# Altium footprint library C655_Main_Board_200210.PcbLib: 23 footprints (part 1 of 2)
Each footprint in its own frame and in the unit in brackets; x right, y up, seen from the top. Pads: shape width x height; smd on the part's side, far side on the other; paste and mask are expansions set on the pad; w line width, h text height; cw(c..) or ccw(c..) is an arc to the next point about the centre after c.
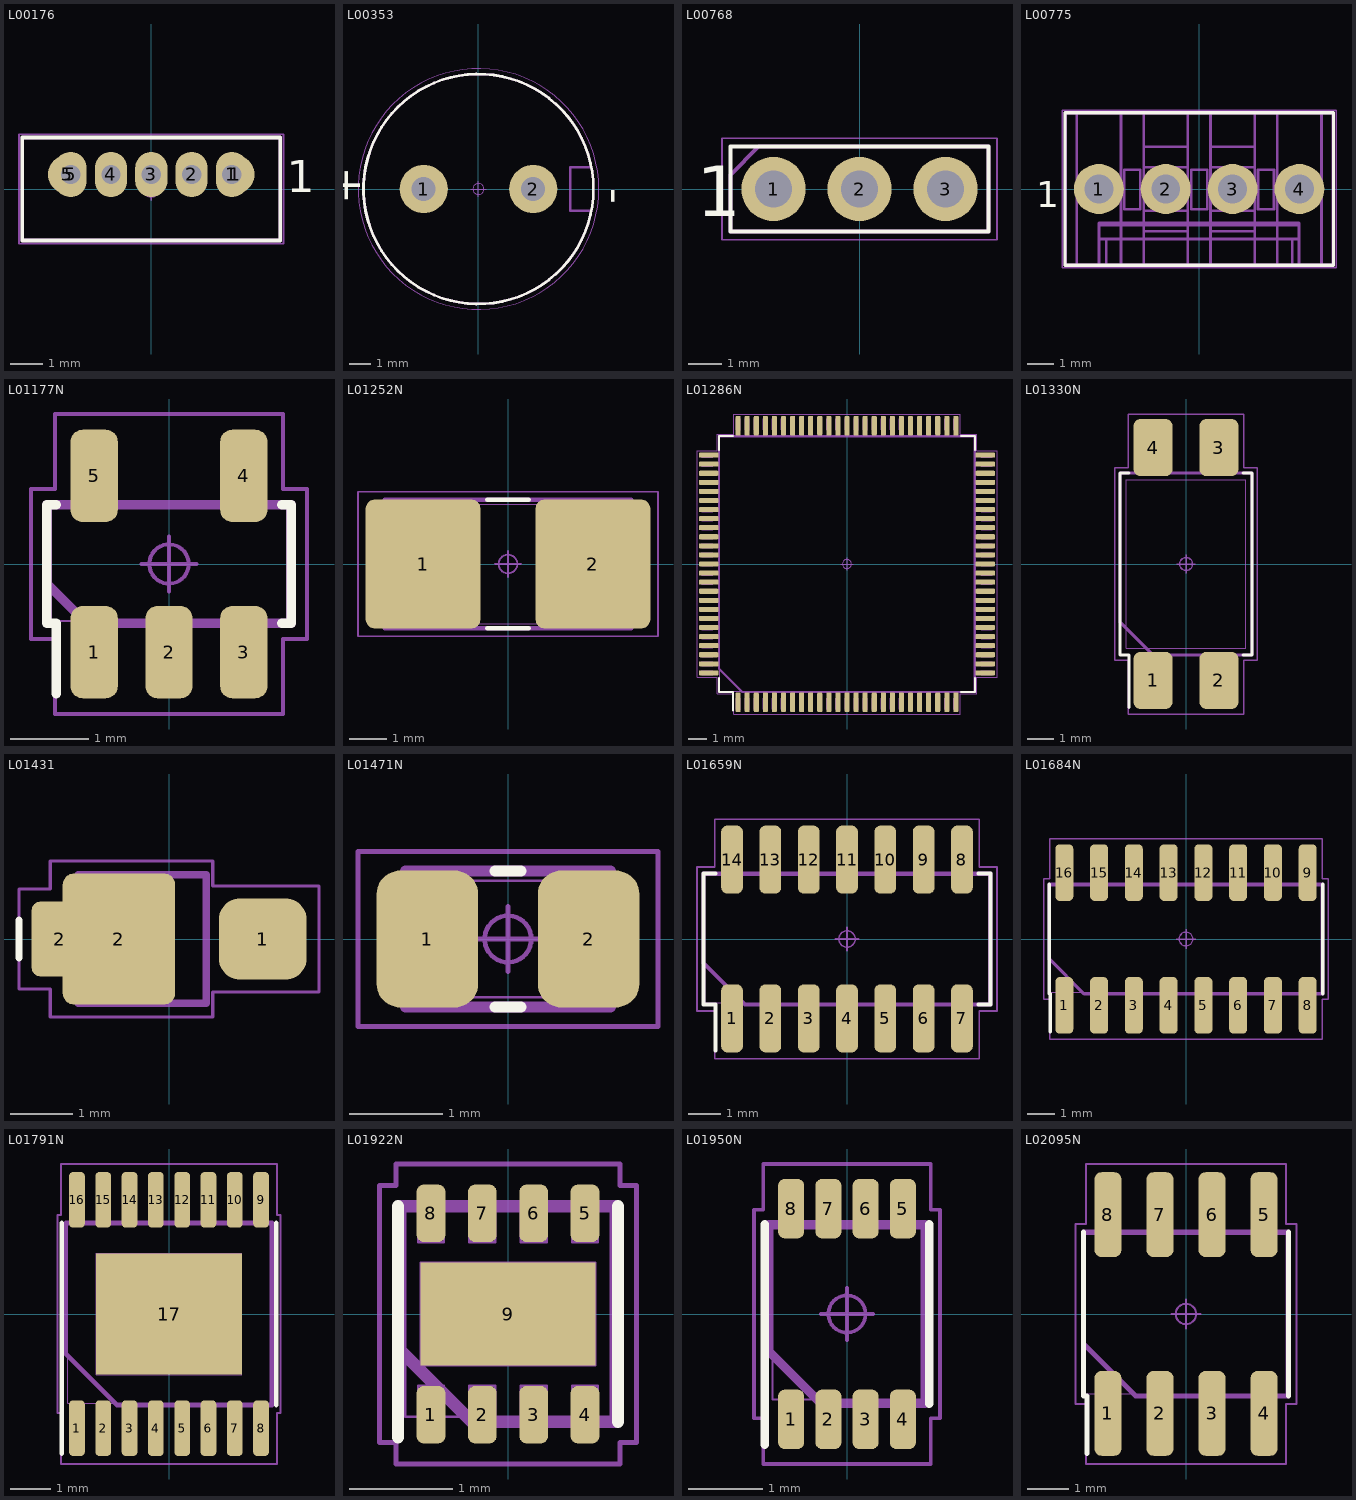
[diagram p0: the footprints below, top view; thin cyan lines are the x and y axes]

## L00176 [mm]
height 4.4
pads (7):
  rrect100% 1x1.4 hole 0.6 paste-1.9: 1(2.5,0.45) 2(1.25,0.45) 3(0,0.45) 4(-1.25,0.45) 5(-2.5,0.45)
  round 1.2 all layers, no hole: 1(2.6,0.45) 5(-2.6,0.45)
Top Overlay:
  lines w0.12: -4,-1.6 4,-1.6 4,1.6 -4,1.6 -4,-1.6
  text "1" at 4.2,-0.1 h1
Top Assembly (Mech13):
  lines w0.12: -4,-1.6 4,-1.6 4,1.6 -4,1.6 -4,-1.6 ; -2.7,0.05 -2.3,0.05 -2.3,0.85 -2.7,0.85 -2.7,0.05 ; -1.45,0.05 -1.05,0.05 -1.05,0.85 -1.45,0.85 -1.45,0.05 ; -0.2,0.05 0.2,0.05 0.2,0.85 -0.2,0.85 -0.2,0.05 ; 1.05,0.05 1.45,0.05 1.45,0.85 1.05,0.85 1.05,0.05 ; 2.3,0.05 2.7,0.05 2.7,0.85 2.3,0.85 2.3,0.05
  text ".Designator" at -3.4,-1.5 h1.5
  text "1" at 3.3,0.1 h1.5
Top Courtyard (Mech15):
  circle w0.05: c0,0 r0.25
  lines w0.05: -0.35,0 0.35,0 ; 0,-0.35 0,0.35 ; -4.1,-1.7 4.1,-1.7 4.1,1.7 -4.1,1.7 -4.1,-1.7
3D body "530470510.stp": height 4.47, standoff -2.02, extent -4,-1.6 4,1.6

## L00353 [mm] "CAPPRD500W60D1050H1400"
height 14
pads (2):
  round 2.2 hole 1.1 paste-2.2: 1(-2.5,0) 2(2.5,0)
Top Overlay:
  circle w0.12: c0,0 r5.25
  text "+" at -5.4,-0.7 h1.5
  text "-" at 6.7,-0.7 h1.5
Top Assembly (Mech13):
  circle w0.12: c0,0 r5.25
  lines w0.12: 5.1,-1 4.2,-1 4.2,1 5.1,1
  text "-" at 5.2,-0.2 h2
  text "+" at -3.7,-0.4 h2
  text ".Designator" at -3.3,-0.6 h1.5
Top Courtyard (Mech15):
  circle w0.05: c0,0 r5.5
  circle w0.05: c0,0 r0.25
  lines w0.05: -0.35,0 0.35,0 ; 0,-0.35 0,0.35
Mechanical 31:
  circle w0.025: c-2.5,0 r0.325
  circle w0.025: c2.5,0 r0.325
  circle w0.025: c0,0 r5.25
3D body "CAPPRD500W60D1050H1400.STEP": height 14.01, standoff -2, extent -5.25,-5.25 5.26,5.25
3D body: height 0.25, standoff 0, extent 0,0 0.254,0.254

## L00768 [mm] "HDRV3W63P254_3X1_762X250H970"
height 9.7
pads (3):
  round 1.9 hole 1.1 paste-1.9: 1(-2.54,0) 2(0,0) 3(2.54,0)
Top Overlay:
  lines w0.12: -3.81,-1.25 3.81,-1.25 3.81,1.25 -3.81,1.25 -3.81,-1.25
  text "1" at -4.8,-0.8 h1.5
Top Assembly (Mech13):
  lines w0.12: -3.81,-1.25 3.81,-1.25 3.81,1.25 -2.977,1.25 -3.81,0.417 -3.81,-1.25
  text ".Designator" at -3.4,-0.6 h1.5
Top Courtyard (Mech15):
  circle w0.05: c0,0 r0.25
  lines w0.05: -0.35,0 0.35,0 ; 0,-0.35 0,0.35 ; -4.06,-1.5 4.06,-1.5 4.06,1.5 -4.06,1.5 -4.06,-1.5
Mechanical 31:
  lines w0.025: -3.81,-1.25 3.81,-1.25 3.81,1.25 -3.81,1.25 -3.81,-1.25 ; -2.855,-0.315 -2.225,-0.315 -2.225,0.315 -2.855,0.315 -2.855,-0.315 ; -0.315,-0.315 0.315,-0.315 0.315,0.315 -0.315,0.315 -0.315,-0.315 ; 2.225,-0.315 2.855,-0.315 2.855,0.315 2.225,0.315 2.225,-0.315
3D body "HDRV3W63P254_3X1_762X250H970.STEP": height 9.7, standoff -2, extent -3.81,-1.25 3.81,1.25

## L00775 [mm]
height 12
pads (4):
  round 1.9 hole 1.1: 1(-3.81,0) 2(-1.27,0) 3(1.27,0) 4(3.81,0)
Top Overlay:
  lines w0.12: -5.1,-2.9 5.1,-2.9 5.1,2.9 -5.1,2.9 -5.1,-2.9
  text "1" at -6.2,-0.7 h1
Top Assembly (Mech13):
  lines w0.12: -3.8,-2.9 -3.8,-1.3 3.8,-1.3 3.8,-2.9 ; -5.1,-2.9 5.1,-2.9 5.1,2.9 -5.1,2.9 -5.1,-2.9 ; -4.135,-0.325 -3.485,-0.325 -3.485,0.325 -4.135,0.325 -4.135,-0.325 ; -1.595,-0.325 -0.945,-0.325 -0.945,0.325 -1.595,0.325 -1.595,-0.325 ; 0.945,-0.325 1.595,-0.325 1.595,0.325 0.945,0.325 0.945,-0.325 ; 3.485,-0.325 4.135,-0.325 4.135,0.325 3.485,0.325 3.485,-0.325
  text ".Designator" at -3.3,-0.6 h1.5
  text "1" at -4,1.4 h1.5
Top Courtyard (Mech15):
  lines w0.05: -5.2,-3 5.2,-3 5.2,3 -5.2,3 -5.2,-3
Mechanical 31:
  lines w0.1: -4.65,-2.9 -4.65,2.9 ; -3.81,-2.9 -3.81,-1.3 3.81,-1.3 3.81,-2.9 ; -3.81,-1.9 3.81,-1.9 ; -3.81,-1.37 3.81,-1.37 ; -3.537,-2.9 -3.537,-1.9 ; -2.97,-2.9 -2.97,2.9 ; -2.11,-2.9 -2.11,2.9 ; -2.11,-1.6 -0.43,-1.6 ; -2.11,-0.825 -0.43,-0.825 ; -2.11,0.825 -0.43,0.825 ; -2.11,1.6 -0.43,1.6 ; -0.43,-2.9 -0.43,2.9 ; 0.43,-2.9 0.43,2.9 ; 0.43,-1.6 2.11,-1.6 ; 0.43,-0.825 2.11,-0.825 ; 0.43,0.825 2.11,0.825 ; 0.43,1.6 2.11,1.6 ; 2.11,-2.9 2.11,2.9 ; 2.97,-2.9 2.97,2.9 ; 3.537,-2.9 3.537,-1.9 ; 4.65,-2.9 4.65,2.9 ; -4.13,-0.34 -3.49,-0.34 ; -4.13,-0.34 -4.13,0.3 ; -4.13,-0.34 -3.93,-0.14 ; -4.13,0.3 -3.49,0.3 ; -4.13,0.3 -3.93,0.1 ; -3.93,-0.14 -3.93,0.1 ; -3.93,-0.14 -3.69,-0.14 ; -3.93,0.1 -3.69,0.1 ; -3.69,-0.14 -3.49,-0.34 ; -3.69,-0.14 -3.69,0.1 ; -3.69,0.1 -3.49,0.3 ; -3.49,-0.34 -3.49,0.3 ; -1.59,-0.34 -0.95,-0.34 ; -1.59,-0.34 -1.59,0.3 ; -1.59,-0.34 -1.39,-0.14 ; -1.59,0.3 -0.95,0.3 ; -1.59,0.3 -1.39,0.1 ; -1.39,-0.14 -1.15,-0.14 ; -1.39,-0.14 -1.39,0.1 ; -1.39,0.1 -1.15,0.1 ; -1.15,-0.14 -1.15,0.1 ; -1.15,-0.14 -0.95,-0.34 ; -1.15,0.1 -0.95,0.3 ; -0.95,-0.34 -0.95,0.3 ; 0.95,-0.34 1.59,-0.34 ; 0.95,-0.34 0.95,0.3 ; 0.95,-0.34 1.15,-0.14 ; 0.95,0.3 1.15,0.1 ; 0.95,0.3 1.59,0.3 ; 1.15,-0.14 1.39,-0.14 ; 1.15,-0.14 1.15,0.1 ; 1.15,0.1 1.39,0.1 ; 1.39,-0.14 1.59,-0.34 ; 1.39,-0.14 1.39,0.1 ; 1.39,0.1 1.59,0.3 ; 1.59,-0.34 1.59,0.3 ; 3.49,-0.34 4.13,-0.34 ; 3.49,-0.34 3.49,0.3 ; 3.49,-0.34 3.69,-0.14 ; 3.49,0.3 4.13,0.3 ; 3.49,0.3 3.69,0.1 ; 3.69,-0.14 3.93,-0.14 ; 3.69,-0.14 3.69,0.1 ; 3.69,0.1 3.93,0.1 ; 3.93,-0.14 4.13,-0.34 ; 3.93,-0.14 3.93,0.1 ; 3.93,0.1 4.13,0.3 ; 4.13,-0.34 4.13,0.3 ; -5.08,-2.9 5.08,-2.9 5.08,2.9 -5.08,2.9 -5.08,-2.9 ; -2.845,-0.77 -2.235,-0.77 -2.235,0.73 -2.845,0.73 -2.845,-0.77 ; -0.305,-0.77 0.305,-0.77 0.305,0.73 -0.305,0.73 -0.305,-0.77 ; 2.235,-0.77 2.845,-0.77 2.845,0.73 2.235,0.73 2.235,-0.77
3D body "22272041.stp": height 11.77, standoff -3.49, extent -5.08,-2.9 5.08,2.9

## L01177N [mm] "SOT23-5P95_275X110L40X37N"
height 1.1
pads (5):
  rrect50% 0.6x1.17 smd: 1(-0.95,-1.12) 2(0,-1.12) 3(0.95,-1.12) 4(0.95,1.12) 5(-0.95,1.12)
Top Overlay:
  lines w0.12: -1.43,-1.645 -1.43,-0.75 -1.55,-0.75 -1.55,0.75 -1.43,0.75 ; 1.43,-0.75 1.55,-0.75 1.55,0.75 1.43,0.75
Top Assembly (Mech13):
  lines w0.12: -1.55,-0.25 -1.05,-0.75 1.55,-0.75 1.55,0.75 -1.55,0.75 -1.55,-0.25
  text ".Designator" at -2.7,-0.4 h1.2
Top Courtyard (Mech15):
  circle w0.05: c0,0 r0.25
  lines w0.05: -0.35,0 0.35,0 ; 0,-0.35 0,0.35 ; -1.75,-0.95 -1.75,0.95 -1.45,0.95 -1.45,1.905 1.45,1.905 1.45,0.95 1.75,0.95 1.75,-0.95 1.45,-0.95 1.45,-1.905 -1.45,-1.905 -1.45,-0.95 -1.75,-0.95
Mechanical 31:
  lines w0.025: -1.5,-0.725 -1.5,0.725 1.5,0.725 1.5,-0.725 -1.5,-0.725 ; -1.138,-1.375 -0.763,-1.375 -0.763,-0.975 -1.138,-0.975 -1.138,-1.375 ; -1.138,0.975 -0.763,0.975 -0.763,1.375 -1.138,1.375 -1.138,0.975 ; -0.188,-1.375 0.188,-1.375 0.188,-0.975 -0.188,-0.975 -0.188,-1.375 ; 0.763,-1.375 1.138,-1.375 1.138,-0.975 0.763,-0.975 0.763,-1.375 ; 0.763,0.975 1.138,0.975 1.138,1.375 0.763,1.375 0.763,0.975
3D body "SOT23-5P95_275X110L40X37.STEP": height 1.1, standoff 0, extent -1.55,-1.5 1.55,1.5

## L01252N [mm] "RESC635X318X90L221N"
height 0.9
pads (2):
  rrect16% 3.07x3.45 smd: 1(-2.27,0) 2(2.27,0)
Top Overlay:
  lines w0.12: -0.555,-1.72 0.555,-1.72 ; -0.555,1.72 0.555,1.72
Top Assembly (Mech13):
  lines w0.12: -3.3,-1.72 -3.3,1.72 3.3,1.72 3.3,-1.72 -3.3,-1.72
  text ".Designator" at -2.159,-0.381 h1
Top Courtyard (Mech15):
  circle w0.05: c0,0 r0.25
  lines w0.05: -0.35,0 0.35,0 ; 0,-0.35 0,0.35 ; -4.01,-1.93 -4.01,1.93 4.01,1.93 4.01,-1.93 -4.01,-1.93
Mechanical 31:
  lines w0.025: -3.175,-1.593 -0.96,-1.593 -0.96,1.593 -3.175,1.593 ; -3.175,-1.593 -3.175,1.593 ; -3.175,-1.593 -3.175,1.593 ; -3.175,-1.593 3.175,-1.593 ; -3.175,1.593 3.175,1.593 ; 3.175,-1.593 3.175,1.593 ; 3.175,-1.593 0.96,-1.593 0.96,1.593 3.175,1.593 ; 3.175,-1.593 3.175,1.593
3D body "RESC635X318X90L221.STEP": height 0.9, standoff 0, extent -3.3,-1.72 3.3,1.72

## L01286N [mm] "QFP100P50_1600X1600X160L60X22N"
height 1.6
pads (100):
  rrect50% 0.28x1.09 smd: 1(-6,-7.62) 2(-5.5,-7.62) 3(-5,-7.62) 4(-4.5,-7.62) 5(-4,-7.62) 6(-3.5,-7.62) 7(-3,-7.62) 8(-2.5,-7.62) 9(-2,-7.62) 10(-1.5,-7.62) 11(-1,-7.62) 12(-0.5,-7.62) 13(0,-7.62) 14(0.5,-7.62) 15(1,-7.62) 16(1.5,-7.62) 17(2,-7.62) 18(2.5,-7.62) 19(3,-7.62) 20(3.5,-7.62) 21(4,-7.62) 22(4.5,-7.62) 23(5,-7.62) 24(5.5,-7.62) 25(6,-7.62) 51(6,7.62) 52(5.5,7.62) 53(5,7.62) 54(4.5,7.62) 55(4,7.62) 56(3.5,7.62) 57(3,7.62) 58(2.5,7.62) 59(2,7.62) 60(1.5,7.62) 61(1,7.62) 62(0.5,7.62) 63(0,7.62) 64(-0.5,7.62) 65(-1,7.62) 66(-1.5,7.62) 67(-2,7.62) 68(-2.5,7.62) 69(-3,7.62) 70(-3.5,7.62) 71(-4,7.62) 72(-4.5,7.62) 73(-5,7.62) 74(-5.5,7.62) 75(-6,7.62)
  rrect50% 1.09x0.28 smd: 26(7.62,-6) 27(7.62,-5.5) 28(7.62,-5) 29(7.62,-4.5) 30(7.62,-4) 31(7.62,-3.5) 32(7.62,-3) 33(7.62,-2.5) 34(7.62,-2) 35(7.62,-1.5) 36(7.62,-1) 37(7.62,-0.5) 38(7.62,0) 39(7.62,0.5) 40(7.62,1) 41(7.62,1.5) 42(7.62,2) 43(7.62,2.5) 44(7.62,3) 45(7.62,3.5) 46(7.62,4) 47(7.62,4.5) 48(7.62,5) 49(7.62,5.5) 50(7.62,6) 76(-7.62,6) 77(-7.62,5.5) 78(-7.62,5) 79(-7.62,4.5) 80(-7.62,4) 81(-7.62,3.5) 82(-7.62,3) 83(-7.62,2.5) 84(-7.62,2) 85(-7.62,1.5) 86(-7.62,1) 87(-7.62,0.5) 88(-7.62,0) 89(-7.62,-0.5) 90(-7.62,-1) 91(-7.62,-1.5) 92(-7.62,-2) 93(-7.62,-2.5) 94(-7.62,-3) 95(-7.62,-3.5) 96(-7.62,-4) 97(-7.62,-4.5) 98(-7.62,-5) 99(-7.62,-5.5) 100(-7.62,-6)
Top Overlay:
  lines w0.1: -7.05,-6.29 -7.05,-7.05 -6.29,-7.05 -6.29,-8.065 ; -7.05,6.29 -7.05,7.05 -6.29,7.05 ; 6.29,-7.05 7.05,-7.05 7.05,-6.29 ; 6.29,7.05 7.05,7.05 7.05,6.29
Top Assembly (Mech13):
  lines w0.12: -7.05,-5.78 -7.05,7.05 7.05,7.05 7.05,-7.05 -5.78,-7.05 -7.05,-5.78
  text ".Designator" at -3.3,-0.6 h1.5
Top Courtyard (Mech15):
  circle w0.05: c0,0 r0.25
  lines w0.05: -0.35,0 0.35,0 ; 0,-0.35 0,0.35 ; -8.265,-6.24 -7.15,-6.24 -7.15,-7.15 -6.24,-7.15 -6.24,-8.265 6.24,-8.265 6.24,-7.15 7.15,-7.15 7.15,-6.24 8.265,-6.24 8.265,6.24 7.15,6.24 7.15,7.15 6.24,7.15 6.24,8.265 -6.24,8.265 -6.24,7.15 -7.15,7.15 -7.15,6.24 -8.265,6.24 -8.265,-6.24
Mechanical 31:
  drawing of 404 lines, arcs and shapes, not listed
3D body "QFP100P50_1600X1600X160L60X22.STEP": height 1.6, standoff 0, extent -8.05,-8.05 8.05,8.05

## L01330N [mm] "SOIC4P254_460X1015X460L100X125N"
height 4.6
pads (4):
  rrect33% 1.5x2.19 smd: 1(-1.27,-4.485) 2(1.27,-4.485) 3(1.27,4.485) 4(-1.27,4.485)
Top Overlay:
  lines w0.12: -2.2,-5.52 -2.2,-3.5 -2.55,-3.5 -2.55,3.5 -2.2,3.5 ; 2.2,-3.5 2.55,-3.5 2.55,3.5 2.2,3.5
Top Assembly (Mech13):
  lines w0.12: -2.55,-2.23 -2.55,3.5 2.55,3.5 2.55,-3.5 -1.28,-3.5 -2.55,-2.23
  text ".Designator" at -2.6,-0.5 h1.2
Top Courtyard (Mech15):
  circle w0.05: c0,0 r0.25
  lines w0.05: -0.35,0 0.35,0 ; 0,-0.35 0,0.35 ; -2.75,-3.7 -2.22,-3.7 -2.22,-5.78 2.22,-5.78 2.22,-3.7 2.75,-3.7 2.75,3.7 2.22,3.7 2.22,5.78 -2.22,5.78 -2.22,3.7 -2.75,3.7 -2.75,-3.7
Mechanical 31:
  lines w0.025: -2.3,-3.25 2.3,-3.25 2.3,3.25 -2.3,3.25 -2.3,-3.25 ; -1.895,-5.075 -1.895,-4.075 -0.645,-4.075 -0.645,-5.075 -1.895,-5.075 ; -1.895,4.075 -1.895,5.075 -0.645,5.075 -0.645,4.075 -1.895,4.075 ; 0.645,-5.075 0.645,-4.075 1.895,-4.075 1.895,-5.075 0.645,-5.075 ; 0.645,4.075 0.645,5.075 1.895,5.075 1.895,4.075 0.645,4.075
3D body "SOIC4P254_460X1015X460L100X125.STEP": height 4.6, standoff 0, extent -2.55,-5.225 2.55,5.225

## L01431 [mm] "Didoe DO216-AA"
height 1.2
pads (3):
  rrect51% 1.4x1.3 smd: 1(1.5,0)
  rrect33% 0.9x1.2 smd: 2(-1.75,0)
  rrect20% 1.8x2.1 smd: 2(-0.8,0)
Top Overlay:
  lines w0.12: -2.4,-0.3 -2.4,0.3
Top Assembly (Mech13):
  lines w0.12: -1.1,-1.025 -1.1,1.025 ; -0.975,-1.025 -0.975,1.025 ; -1.45,-1.025 -1.45,1.025 0.6,1.025 0.6,-1.025 -1.45,-1.025
  text ".Designator" at -1.5,-0.3 h0.6
Top Courtyard (Mech15):
  lines w0.05: -2.4,-0.8 -1.9,-0.8 -1.9,-1.25 0.7,-1.25 0.7,-0.85 2.4,-0.85 2.4,0.85 0.7,0.85 0.7,1.25 -1.9,1.25 -1.9,0.8 -2.4,0.8 -2.4,-0.8
3D body "User Library-DO-216AA.STEP": height 1.01, standoff 0, extent -1.925,-1 1.925,1

## L01471N [mm] "Ferrite Bead, Chip; 2.00 mm L X 1.25 mm W X 1.05 mm H body"
height 1.05
pads (2):
  rrect46% 1.09x1.47 smd: 1(-0.865,0) 2(0.865,0)
Top Overlay:
  lines w0.12: -0.14,-0.73 0.14,-0.73 ; -0.14,0.73 0.14,0.73
Top Assembly (Mech13):
  lines w0.12: -1.1,-0.73 -1.1,0.73 1.1,0.73 1.1,-0.73 -1.1,-0.73
  text ".Designator" at -2.667,-0.508 h1.2
Top Courtyard (Mech15):
  circle w0.05: c0,0 r0.25
  lines w0.05: -0.35,0 0.35,0 ; 0,-0.35 0,0.35 ; -1.61,-0.94 -1.61,0.94 1.61,0.94 1.61,-0.94 -1.61,-0.94
Mechanical 31:
  lines w0.025: -1,-0.625 -0.5,-0.625 -0.5,0.625 -1,0.625 ; -1,-0.625 -1,0.625 ; -1,-0.625 -1,0.625 ; -1,-0.625 1,-0.625 ; -1,0.625 1,0.625 ; 1,-0.625 1,0.625 ; 1,-0.625 0.5,-0.625 0.5,0.625 1,0.625 ; 1,-0.625 1,0.625
3D body "BEADC200X125X105L50.STEP": height 1.05, standoff 0, extent -1.1,-0.725 1.1,0.725

## L01659N [mm] "SOIC14P117_865X600X180L83X41N"
height 1.8
pads (14):
  rrect52% 0.66x2.07 smd: 1(-3.51,-2.425) 2(-2.34,-2.425) 3(-1.17,-2.425) 4(0,-2.425) 5(1.17,-2.425) 6(2.34,-2.425) 7(3.51,-2.425) 8(3.51,2.425) 9(2.34,2.425) 10(1.17,2.425) 11(0,2.425) 12(-1.17,2.425) 13(-2.34,2.425) 14(-3.51,2.425)
Top Overlay:
  lines w0.12: -4.02,-3.4 -4.02,-2 -4.38,-2 -4.38,2 -4.02,2 ; 4.02,-2 4.38,-2 4.38,2 4.02,2
Top Assembly (Mech13):
  lines w0.12: -4.38,-0.73 -4.38,2 4.38,2 4.38,-2 -3.11,-2 -4.38,-0.73
  text ".Designator" at -3.4,-0.6 h1.5
Top Courtyard (Mech15):
  circle w0.05: c0,0 r0.25
  lines w0.05: -0.35,0 0.35,0 ; 0,-0.35 0,0.35 ; -4.58,-2.2 -4.04,-2.2 -4.04,-3.66 4.04,-3.66 4.04,-2.2 4.58,-2.2 4.58,2.2 4.04,2.2 4.04,3.66 -4.04,3.66 -4.04,2.2 -4.58,2.2 -4.58,-2.2
Mechanical 31:
  lines w0.025: -4.325,-1.95 4.325,-1.95 4.325,1.95 -4.325,1.95 -4.325,-1.95 ; -3.715,-3 -3.715,-2.165 -3.305,-2.165 -3.305,-3 -3.715,-3 ; -3.715,2.165 -3.715,3 -3.305,3 -3.305,2.165 -3.715,2.165 ; -2.545,-3 -2.545,-2.165 -2.135,-2.165 -2.135,-3 -2.545,-3 ; -2.545,2.165 -2.545,3 -2.135,3 -2.135,2.165 -2.545,2.165 ; -1.375,-3 -1.375,-2.165 -0.965,-2.165 -0.965,-3 -1.375,-3 ; -1.375,2.165 -1.375,3 -0.965,3 -0.965,2.165 -1.375,2.165 ; -0.205,-3 -0.205,-2.165 0.205,-2.165 0.205,-3 -0.205,-3 ; -0.205,2.165 -0.205,3 0.205,3 0.205,2.165 -0.205,2.165 ; 0.965,-3 0.965,-2.165 1.375,-2.165 1.375,-3 0.965,-3 ; 0.965,2.165 0.965,3 1.375,3 1.375,2.165 0.965,2.165 ; 2.135,-3 2.135,-2.165 2.545,-2.165 2.545,-3 2.135,-3 ; 2.135,2.165 2.135,3 2.545,3 2.545,2.165 2.135,2.165 ; 3.305,-3 3.305,-2.165 3.715,-2.165 3.715,-3 3.305,-3 ; 3.305,2.165 3.305,3 3.715,3 3.715,2.165 3.305,2.165
3D body "SOIC14P117_865X600X180L83X41.STEP": height 1.8, standoff 0, extent -4.375,-3.1 4.375,3.1

## L01684N [mm] "SOIC16P127_990X600X180L83X41N"
height 1.8
pads (16):
  rrect52% 0.66x2.07 smd: 1(-4.445,-2.425) 2(-3.175,-2.425) 3(-1.905,-2.425) 4(-0.635,-2.425) 5(0.635,-2.425) 6(1.905,-2.425) 7(3.175,-2.425) 8(4.445,-2.425) 9(4.445,2.425) 10(3.175,2.425) 11(1.905,2.425) 12(0.635,2.425) 13(-0.635,2.425) 14(-1.905,2.425) 15(-3.175,2.425) 16(-4.445,2.425)
Top Overlay:
  lines w0.12: -5,-2 -5,2 ; -4.955,-3.4 -4.955,-2 ; 5,-2 5,2
Top Assembly (Mech13):
  lines w0.12: -5,-0.73 -5,2 5,2 5,-2 -3.73,-2 -5,-0.73
  text ".Designator" at -3.3,-0.6 h1.5
Top Courtyard (Mech15):
  circle w0.05: c0,0 r0.25
  lines w0.05: -0.35,0 0.35,0 ; 0,-0.35 0,0.35 ; -5.2,-2.2 -4.975,-2.2 -4.975,-3.66 4.975,-3.66 4.975,-2.2 5.2,-2.2 5.2,2.2 4.975,2.2 4.975,3.66 -4.975,3.66 -4.975,2.2 -5.2,2.2 -5.2,-2.2
Mechanical 31:
  lines w0.025: -4.95,-1.95 4.95,-1.95 4.95,1.95 -4.95,1.95 -4.95,-1.95 ; -4.65,-3 -4.65,-2.165 -4.24,-2.165 -4.24,-3 -4.65,-3 ; -4.65,2.165 -4.65,3 -4.24,3 -4.24,2.165 -4.65,2.165 ; -3.38,-3 -3.38,-2.165 -2.97,-2.165 -2.97,-3 -3.38,-3 ; -3.38,2.165 -3.38,3 -2.97,3 -2.97,2.165 -3.38,2.165 ; -2.11,-3 -2.11,-2.165 -1.7,-2.165 -1.7,-3 -2.11,-3 ; -2.11,2.165 -2.11,3 -1.7,3 -1.7,2.165 -2.11,2.165 ; -0.84,-3 -0.84,-2.165 -0.43,-2.165 -0.43,-3 -0.84,-3 ; -0.84,2.165 -0.84,3 -0.43,3 -0.43,2.165 -0.84,2.165 ; 0.43,-3 0.43,-2.165 0.84,-2.165 0.84,-3 0.43,-3 ; 0.43,2.165 0.43,3 0.84,3 0.84,2.165 0.43,2.165 ; 1.7,-3 1.7,-2.165 2.11,-2.165 2.11,-3 1.7,-3 ; 1.7,2.165 1.7,3 2.11,3 2.11,2.165 1.7,2.165 ; 2.97,-3 2.97,-2.165 3.38,-2.165 3.38,-3 2.97,-3 ; 2.97,2.165 2.97,3 3.38,3 3.38,2.165 2.97,2.165 ; 4.24,-3 4.24,-2.165 4.65,-2.165 4.65,-3 4.24,-3 ; 4.24,2.165 4.24,3 4.65,3 4.65,2.165 4.24,2.165
3D body "SOIC16P127_990X600X180L83X41.STEP": height 1.8, standoff 0, extent -5,-3.1 5,3.1

## L01791N [mm] "SOP17P65_500X640X120L62X24T360X300N"
height 1.2
pads (17):
  rrect51% 0.39x1.37 smd: 1(-2.275,-2.82) 2(-1.625,-2.82) 3(-0.975,-2.82) 4(-0.325,-2.82) 5(0.325,-2.82) 6(0.975,-2.82) 7(1.625,-2.82) 8(2.275,-2.82) 9(2.275,2.82) 10(1.625,2.82) 11(0.975,2.82) 12(0.325,2.82) 13(-0.325,2.82) 14(-0.975,2.82) 15(-1.625,2.82) 16(-2.275,2.82)
  rect 3.6x3 smd: 17(0,0)
Top Overlay:
  lines w0.12: -2.65,-3.445 -2.65,-2.25 -2.65,2.25 ; 2.65,-2.25 2.65,2.25
Top Assembly (Mech13):
  lines w0.12: -2.55,-0.98 -1.28,-2.25 2.55,-2.25 2.55,2.25 -2.55,2.25 -2.55,-0.98
  text ".Designator" at -2.6,-0.5 h1.2
Top Courtyard (Mech15):
  circle w0.05: c0,0 r0.25
  lines w0.05: -0.35,0 0.35,0 ; 0,-0.35 0,0.35 ; -2.75,-2.45 -2.75,2.45 -2.67,2.45 -2.67,3.705 2.67,3.705 2.67,2.45 2.75,2.45 2.75,-2.45 2.67,-2.45 2.67,-3.705 -2.67,-3.705 -2.67,-2.45 -2.75,-2.45
Mechanical 31:
  lines w0.025: -2.5,-2.2 -2.5,2.2 2.5,2.2 2.5,-2.2 -2.5,-2.2 ; -2.398,-3.2 -2.153,-3.2 -2.153,-2.575 -2.398,-2.575 -2.398,-3.2 ; -2.398,2.575 -2.153,2.575 -2.153,3.2 -2.398,3.2 -2.398,2.575 ; -1.8,-1.5 1.8,-1.5 1.8,1.5 -1.8,1.5 -1.8,-1.5 ; -1.747,-3.2 -1.502,-3.2 -1.502,-2.575 -1.747,-2.575 -1.747,-3.2 ; -1.747,2.575 -1.502,2.575 -1.502,3.2 -1.747,3.2 -1.747,2.575 ; -1.098,-3.2 -0.853,-3.2 -0.853,-2.575 -1.098,-2.575 -1.098,-3.2 ; -1.098,2.575 -0.853,2.575 -0.853,3.2 -1.098,3.2 -1.098,2.575 ; -0.447,-3.2 -0.202,-3.2 -0.202,-2.575 -0.447,-2.575 -0.447,-3.2 ; -0.447,2.575 -0.202,2.575 -0.202,3.2 -0.447,3.2 -0.447,2.575 ; 0.202,-3.2 0.447,-3.2 0.447,-2.575 0.202,-2.575 0.202,-3.2 ; 0.202,2.575 0.447,2.575 0.447,3.2 0.202,3.2 0.202,2.575 ; 0.853,-3.2 1.098,-3.2 1.098,-2.575 0.853,-2.575 0.853,-3.2 ; 0.853,2.575 1.098,2.575 1.098,3.2 0.853,3.2 0.853,2.575 ; 1.502,-3.2 1.747,-3.2 1.747,-2.575 1.502,-2.575 1.502,-3.2 ; 1.502,2.575 1.747,2.575 1.747,3.2 1.502,3.2 1.502,2.575 ; 2.153,-3.2 2.398,-3.2 2.398,-2.575 2.153,-2.575 2.153,-3.2 ; 2.153,2.575 2.398,2.575 2.398,3.2 2.153,3.2 2.153,2.575
3D body "SOP17P65_500X640X120L62X24T360X300.STEP": height 1.2, standoff 0, extent -2.55,-3.3 2.55,3.3

## L01922N [mm] "SON9P50_200X200X80L30X25T170X100N"
height 0.8
pads (9):
  rrect50% 0.28x0.56 smd: 1(-0.75,-0.98) 2(-0.25,-0.98) 3(0.25,-0.98) 4(0.75,-0.98) 5(0.75,0.98) 6(0.25,0.98) 7(-0.25,0.98) 8(-0.75,0.98)
  rect 1.7x1 smd: 9(0,0)
Top Overlay:
  lines w0.12: -1.07,-1.2 -1.07,-1.05 -1.07,1.05 ; 1.07,-1.05 1.07,1.05
Top Assembly (Mech13):
  lines w0.12: -1.05,-0.35 -0.35,-1.05 1.05,-1.05 1.05,1.05 -1.05,1.05 -1.05,-0.35
  text ".Designator" at -1.75,-0.225 h0.8
Top Courtyard (Mech15):
  circle w0.05: c0,0 r0.25
  lines w0.05: -0.35,0 0.35,0 ; 0,-0.35 0,0.35 ; -1.25,-1.25 -1.25,1.25 -1.09,1.25 -1.09,1.46 1.09,1.46 1.09,1.25 1.25,1.25 1.25,-1.25 1.09,-1.25 1.09,-1.46 -1.09,-1.46 -1.09,-1.25 -1.25,-1.25
Mechanical 31:
  lines w0.025: -1,-1 -1,1 1,1 1,-1 -1,-1 ; -0.875,-1 -0.625,-1 -0.625,-0.7 -0.875,-0.7 -0.875,-1 ; -0.875,0.7 -0.625,0.7 -0.625,1 -0.875,1 -0.875,0.7 ; -0.85,-0.5 0.85,-0.5 0.85,0.5 -0.85,0.5 -0.85,-0.5 ; -0.375,-1 -0.125,-1 -0.125,-0.7 -0.375,-0.7 -0.375,-1 ; -0.375,0.7 -0.125,0.7 -0.125,1 -0.375,1 -0.375,0.7 ; 0.125,-1 0.375,-1 0.375,-0.7 0.125,-0.7 0.125,-1 ; 0.125,0.7 0.375,0.7 0.375,1 0.125,1 0.125,0.7 ; 0.625,-1 0.875,-1 0.875,-0.7 0.625,-0.7 0.625,-1 ; 0.625,0.7 0.875,0.7 0.875,1 0.625,1 0.625,0.7
3D body "SON9P50_200X200X80L30X25T170X100.STEP": height 0.8, standoff 0, extent -1.05,-1.1 1.05,1.1

## L01950N [mm] "SOP8P50_200X310X90L27X25N"
height 0.9
pads (8):
  rrect51% 0.35x0.8 smd: 1(-0.75,-1.415) 2(-0.25,-1.415) 3(0.25,-1.415) 4(0.75,-1.415) 5(0.75,1.415) 6(0.25,1.415) 7(-0.25,1.415) 8(-0.75,1.415)
Top Overlay:
  lines w0.12: -1.105,-1.755 -1.105,-1.2 -1.105,1.2 ; 1.105,-1.2 1.105,1.2
Top Assembly (Mech13):
  lines w0.12: -1.05,-0.5 -0.35,-1.2 1.05,-1.2 1.05,1.2 -1.05,1.2 -1.05,-0.5
  text ".Designator" at 0.6,-1.8 h0.8
Top Courtyard (Mech15):
  circle w0.05: c0,0 r0.25
  lines w0.05: -0.35,0 0.35,0 ; 0,-0.35 0,0.35 ; -1.25,-1.4 -1.25,1.4 -1.125,1.4 -1.125,2.015 1.125,2.015 1.125,1.4 1.25,1.4 1.25,-1.4 1.125,-1.4 1.125,-2.015 -1.125,-2.015 -1.125,-1.4 -1.25,-1.4
Mechanical 31:
  lines w0.025: -1,-1.15 -1,1.15 1,1.15 1,-1.15 -1,-1.15 ; -0.875,-1.55 -0.625,-1.55 -0.625,-1.275 -0.875,-1.275 -0.875,-1.55 ; -0.875,1.275 -0.625,1.275 -0.625,1.55 -0.875,1.55 -0.875,1.275 ; -0.375,-1.55 -0.125,-1.55 -0.125,-1.275 -0.375,-1.275 -0.375,-1.55 ; -0.375,1.275 -0.125,1.275 -0.125,1.55 -0.375,1.55 -0.375,1.275 ; 0.125,-1.55 0.375,-1.55 0.375,-1.275 0.125,-1.275 0.125,-1.55 ; 0.125,1.275 0.375,1.275 0.375,1.55 0.125,1.55 0.125,1.275 ; 0.625,-1.55 0.875,-1.55 0.875,-1.275 0.625,-1.275 0.625,-1.55 ; 0.625,1.275 0.875,1.275 0.875,1.55 0.625,1.55 0.625,1.275
3D body "SOP8P50_200X310X90L27X25.STEP": height 0.9, standoff 0, extent -1.05,-1.6 1.05,1.6

## L02095N [mm] "SOIC8P127_490X600X180L84X41N"
height 1.8
pads (8):
  rrect52% 0.66x2.07 smd: 1(-1.905,-2.425) 2(-0.635,-2.425) 3(0.635,-2.425) 4(1.905,-2.425) 5(1.905,2.425) 6(0.635,2.425) 7(-0.635,2.425) 8(-1.905,2.425)
Top Overlay:
  lines w0.12: -2.5,-2 -2.5,2 ; -2.415,-3.4 -2.415,-2 ; 2.5,-2 2.5,2
Top Assembly (Mech13):
  lines w0.12: -2.5,-0.73 -2.5,2 2.5,2 2.5,-2 -1.23,-2 -2.5,-0.73
  text ".Designator" at -3.4,-0.6 h1.5
Top Courtyard (Mech15):
  circle w0.05: c0,0 r0.25
  lines w0.05: -0.35,0 0.35,0 ; 0,-0.35 0,0.35 ; -2.7,-2.2 -2.435,-2.2 -2.435,-3.66 2.435,-3.66 2.435,-2.2 2.7,-2.2 2.7,2.2 2.435,2.2 2.435,3.66 -2.435,3.66 -2.435,2.2 -2.7,2.2 -2.7,-2.2
Mechanical 31:
  lines w0.025: -2.45,-1.95 2.45,-1.95 2.45,1.95 -2.45,1.95 -2.45,-1.95 ; -2.11,-3 -2.11,-2.16 -1.7,-2.16 -1.7,-3 -2.11,-3 ; -2.11,2.16 -2.11,3 -1.7,3 -1.7,2.16 -2.11,2.16 ; -0.84,-3 -0.84,-2.16 -0.43,-2.16 -0.43,-3 -0.84,-3 ; -0.84,2.16 -0.84,3 -0.43,3 -0.43,2.16 -0.84,2.16 ; 0.43,-3 0.43,-2.16 0.84,-2.16 0.84,-3 0.43,-3 ; 0.43,2.16 0.43,3 0.84,3 0.84,2.16 0.43,2.16 ; 1.7,-3 1.7,-2.16 2.11,-2.16 2.11,-3 1.7,-3 ; 1.7,2.16 1.7,3 2.11,3 2.11,2.16 1.7,2.16
3D body "SOIC8P127_490X600X180L84X41.STEP": height 1.8, standoff 0, extent -2.5,-3.1 2.5,3.1